# Altium schematic symbol library Triac.SchLib: 2 symbols
Pins are listed as number, name and electrical type; pins without a type are passive.

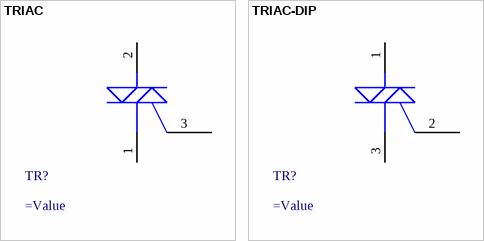
[diagram p0: symbols TRIAC to TRIAC-DIP]

## TRIAC
designator TR?
=Description
pins: 1 T1, 2 T2, 3 G

## TRIAC-DIP
designator TR?
=Description
pins: 1 T2, 2 G, 3 T1